# Altium schematic symbol library lcdtft.SchLib: 49 symbols
Pins are listed as number, name and electrical type; pins without a type are passive.

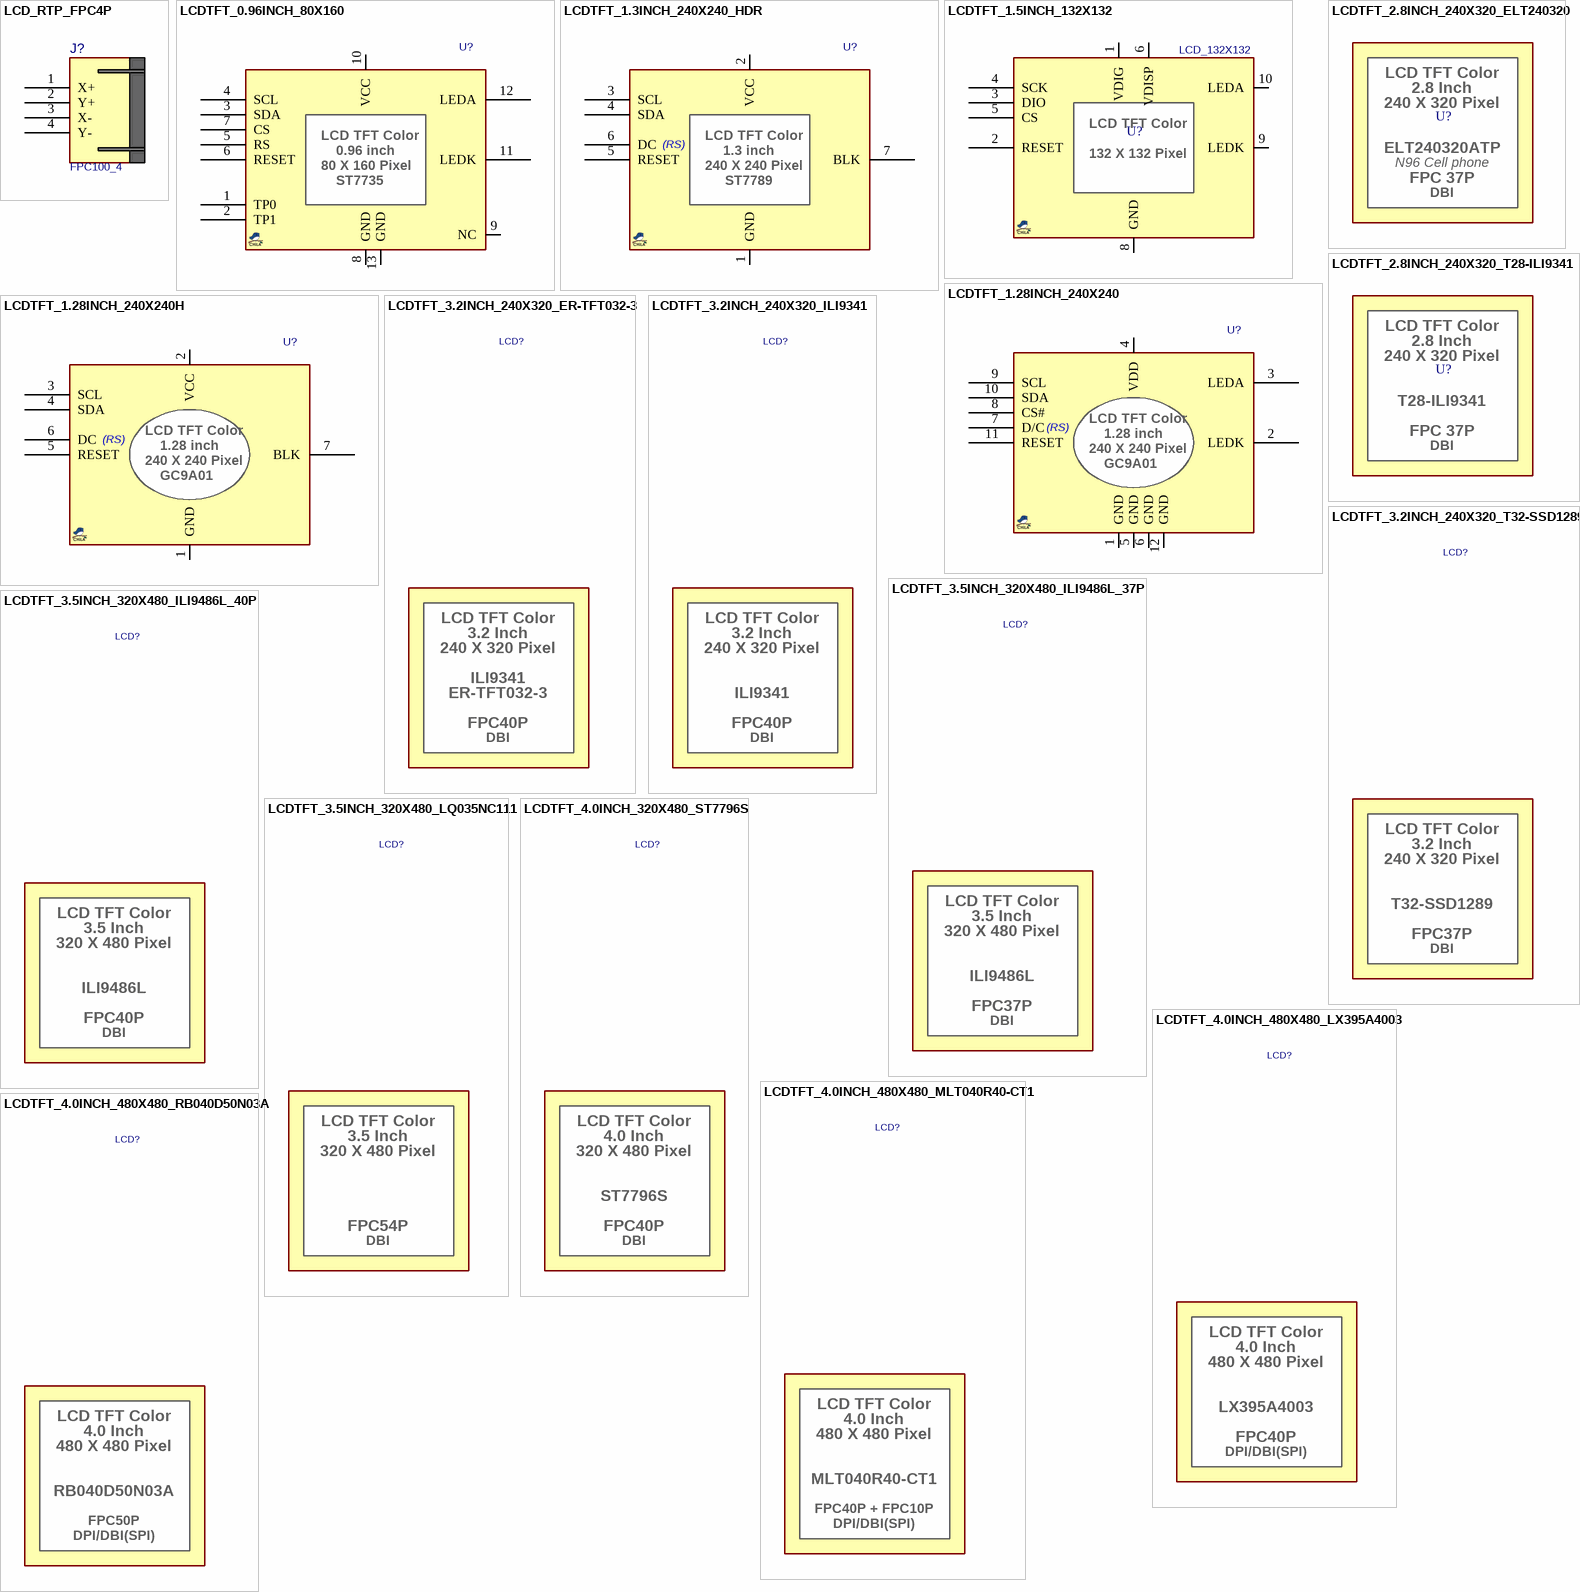
[diagram p0: symbols LCD_RTP_FPC4P to LCDTFT_4.0INCH_480X480_RB040D50N03A]

## LCD_RTP_FPC4P
designator J?, comment FPC100_4
LCD Resistive touch, FPC 4pin; MANF: -; MANF_P#: -; PARAM: -; VALUE: FPC100_4
footprint FPC100_4HT (TE Connectivity 4-pin ZIF connector TE84953-4)
pins: 1 X+, 2 Y+, 3 X-, 4 Y-

## LCDTFT_0.96INCH_80X160
designator U?, comment LCDTFT_0.96  (value not drawn)
LCD TFT Color, 0.96", 80x160 - ST7735; PARAM2: 3.3V; PARAM: 0.96 inch-80x160, ST7735; VALUE: LCDTFT_0.96
footprint LCDTFT_0P96_80X160 (TFT LCD 0.96 inch-80x160 - ST7735)
footprint LCDTFT_0P96_80X160B (TFT LCD 0.96 inch-80x160 - ST7735)
pins: 1 TP0 (power), 2 TP1 (power), 3 SDA (power), 4 SCL (power), 5 RS (power), 6 RESET (power), 7 CS (power), 8 GND (power), 9 NC (power), 10 VCC (power), 11 LEDK (power), 12 LEDA (power), 13 GND (power)
text: LCD TFT Color; 0.96 inch; 80 X 160 Pixel; ST7735

## LCDTFT_1.3INCH_240X240_HDR
designator U?, comment LCDTFT_1.3"  (value not drawn)
LCD TFT Color, 1.3", 240X240, ST7789; MANF_P#: ZJY130-IPS breakout; PARAM2: 3.3V; PARAM: 1.3 inch, 240X240, ST7789; VALUE: LCDTFT_1.3"
footprint LCDTFT_1P3_240X240 (LCD TFT Color, 1.3", 240X240, ST7789)
pins: 1 GND, 2 VCC, 3 SCL, 4 SDA, 5 RESET, 6 DC, 7 BLK
text: (RS); LCD TFT Color; 1.3 inch; 240 X 240 Pixel; ST7789

## LCDTFT_1.5INCH_132X132
designator U?, comment LCD_132X132
LCD TFT 1.5", 132X132, 12Bit Color; MANF: Nokia; MANF_P#: 6610, 6220, 6100, 2600, 2610; PARAM2: 3.3VIO; PARAM: 12Bit Color, 1.5", 132X132; VALUE: LCD_132X132
footprint LCDTFT_1P5_132X132 (LCD, NOKIA 6610, 6220, 6100, 2600, 2610)
pins: 1 VDIG, 2 RESET, 3 DIO, 4 SCK, 5 CS, 6 VDISP, 8 GND, 9 LEDK, 10 LEDA
text: LCD TFT Color; 132 X 132 Pixel

## LCDTFT_1.28INCH_240X240
designator U?, comment LCDTFT_1.28"  (value not drawn)
LCD TFT Color, 1.28", 240X240, GC9A01; MANF_P#: ZJY128R-IG01; PARAM2: 3.3V; PARAM: 1.28 inch, 240X240, GC9A01; VALUE: LCDTFT_1.28"
footprint LCDTFT_1P28_240X240 (LCD TFT Color, 1.28", 240X240, GC9A01)
pins: 1 GND (power), 2 LEDK (power), 3 LEDA (power), 4 VDD (power), 5 GND (power), 6 GND (power), 7 D/C (power), 8 CS# (power), 9 SCL (power), 10 SDA (power), 11 RESET (power), 12 GND (power)
text: (RS); LCD TFT Color; 1.28 inch; 240 X 240 Pixel; GC9A01

## LCDTFT_1.28INCH_240X240H
designator U?, comment LCDTFT_1.28"  (value not drawn)
LCD TFT Color, 1.28", 240X240, GC9A01, breakout; MANF_P#: ZJY128R-IG01; PARAM2: 3.3V; PARAM: 1.28 inch, 240X240, GC9A01; VALUE: LCDTFT_1.28"
footprint LCDTFT_1P28_240X240H (LCD TFT Color, 1.28", 240X240, GC9A01, breakout)
pins: 1 GND, 2 VCC, 3 SCL, 4 SDA, 5 RESET, 6 DC, 7 BLK
text: (RS); LCD TFT Color; 1.28 inch; 240 X 240 Pixel; GC9A01

## LCDTFT_2.8INCH_240X320_ELT240320
designator U?, comment LCD_2.8INCH  (value not drawn)
LCD TFT Color, 2.8", 240X320, with Touch; MANF: China; MANF_P#: ELT240320ATP; PARAM2: 5VCC, 2.5~3.3VIO; PARAM: 240X320 pixel, 2.8", Color; VALUE: LCD_2.8INCH
footprint LCDTFT_2P8_FPC37P (Footprint not found)
footprint LCDTFT_2P8_N96 (LCD, TFT, 2.8" N96)
text: LCD TFT Color; 2.8 Inch; 240 X 320 Pixel; N96 Cell phone; FPC 37P; DBI

## LCDTFT_2.8INCH_240X320_T28-ILI9341
designator U?, comment LCD_2.8INCH  (value not drawn)
LCD TFT Color, 2.8", 240X320, with Touch; MANF: China; MANF_P#: T28-ILI9341; PARAM2: 5VCC, 2.5~3.3VIO; PARAM: 240X320 pixel, 2.8", Color; VALUE: LCD_2.8INCH
footprint LCDTFT_2P8_FPC37P (Footprint not found)
text: LCD TFT Color; 2.8 Inch; 240 X 320 Pixel; FPC 37P; DBI

## LCDTFT_3.2INCH_240X320_ER-TFT032-3
designator LCD?, comment LCDTFT_3.2INCH  (value not drawn)  (mechanical)
LCD TFT Color, 3.2", 240X320 with touch; MANF: -; MANF_P#: LCDTFT_3.2INCH; VALUE: LCDTFT_3.2INCH
footprint LCDTFT3P2_FPC40P (Footprint not found)
text: LCD TFT Color; 3.2 Inch; 240 X 320 Pixel; ILI9341; ER-TFT032-3; FPC40P; DBI

## LCDTFT_3.2INCH_240X320_ILI9341
designator LCD?, comment LCDTFT_3.2INCH  (value not drawn)  (mechanical)
LCD TFT Color, 3.2", 240X320 with touch; MANF: -; MANF_P#: LCDTFT_3.2INCH; VALUE: LCDTFT_3.2INCH
footprint LCDTFT3P2_FPC40P (Footprint not found)
text: LCD TFT Color; 3.2 Inch; 240 X 320 Pixel; ILI9341; FPC40P; DBI

## LCDTFT_3.2INCH_240X320_T32-SSD1289
designator LCD?, comment LCDTFT_3.2INCH  (value not drawn)  (mechanical)
LCD TFT Color, 3.2", 240X320 with touch; MANF_P#: T32-SSD1289; MANF: -; VALUE: LCDTFT_3.2INCH
footprint LCDTFT3P2_FPC37P (Footprint not found)
text: LCD TFT Color; 3.2 Inch; 240 X 320 Pixel; FPC37P; DBI

## LCDTFT_3.5INCH_320X480_ILI9486L_37P
designator LCD?, comment LCDTFT_3.5INCH  (value not drawn)  (mechanical)
LCD TFT Color, 3.5", 320X480 with touch; MANF: -; MANF_P#: LCDTFT_3.5INCH; VALUE: LCDTFT_3.5INCH
footprint LCDTFT3P2_FPC37P (Footprint not found)
text: LCD TFT Color; 3.5 Inch; 320 X 480 Pixel; ILI9486L; FPC37P; DBI

## LCDTFT_3.5INCH_320X480_ILI9486L_40P
designator LCD?, comment LCDTFT_3.5INCH  (value not drawn)  (mechanical)
LCD TFT Color, 3.5", 320X480 with touch; MANF: -; MANF_P#: LCDTFT_3.5INCH; VALUE: LCDTFT_3.5INCH
footprint LCDTFT3P5_FPC40P (Footprint not found)
text: LCD TFT Color; 3.5 Inch; 320 X 480 Pixel; ILI9486L; FPC40P; DBI

## LCDTFT_3.5INCH_320X480_LQ035NC111
designator LCD?, comment LCDTFT_3.5INCH  (value not drawn)  (mechanical)
LCD TFT Color, 3.5", 320X480 with touch; MANF_P#: LQ035NC111; MANF: -; VALUE: LCDTFT_3.5INCH
footprint LCDTFT3P5_FPC54P (Footprint not found)
text: LCD TFT Color; 3.5 Inch; 320 X 480 Pixel; FPC54P; DBI

## LCDTFT_4.0INCH_320X480_ST7796S
designator LCD?, comment LCDTFT_4INCH  (value not drawn)  (mechanical)
LCD TFT Color, 4", 320X480 with touch; MANF: -; MANF_P#: LCDTFT_4INCH; VALUE: LCDTFT_4INCH
footprint LCDTFT4_FPC40P (Footprint not found)
text: LCD TFT Color; 4.0 Inch; 320 X 480 Pixel; ST7796S; FPC40P; DBI

## LCDTFT_4.0INCH_480X480_LX395A4003
designator LCD?, comment LCDTFT_4INCH  (value not drawn)  (mechanical)
LCD TFT Color, 4", 480X480 with touch; MANF: -; MANF_P#: LCDTFT_4INCH; VALUE: LCDTFT_4INCH
footprint LCDTFT4S_FPC40P (Footprint not found)
text: LCD TFT Color; 4.0 Inch; 480 X 480 Pixel; LX395A4003; FPC40P; DPI/DBI(SPI)

## LCDTFT_4.0INCH_480X480_MLT040R40-CT1
designator LCD?, comment LCDTFT_4INCH  (value not drawn)  (mechanical)
LCD TFT Color, 4", 480X480 with touch; MANF: szmaclight; MANF_P#: MLT040R40-CT1; VALUE: LCDTFT_4INCH
footprint LCDTFT4S_FPC40P10P (Footprint not found)
text: LCD TFT Color; 4.0 Inch; 480 X 480 Pixel; FPC40P + FPC10P; DPI/DBI(SPI)

## LCDTFT_4.0INCH_480X480_RB040D50N03A
designator LCD?, comment LCDTFT_4INCH  (value not drawn)  (mechanical)
LCD TFT Color, 4", 480X480 with touch; MANF: Ronbo; MANF_P#: RB040D50N03A; VALUE: LCDTFT_4INCH
footprint LCDTFT4S_FPC50P (Footprint not found)
text: LCD TFT Color; 4.0 Inch; 480 X 480 Pixel; FPC50P; DPI/DBI(SPI)

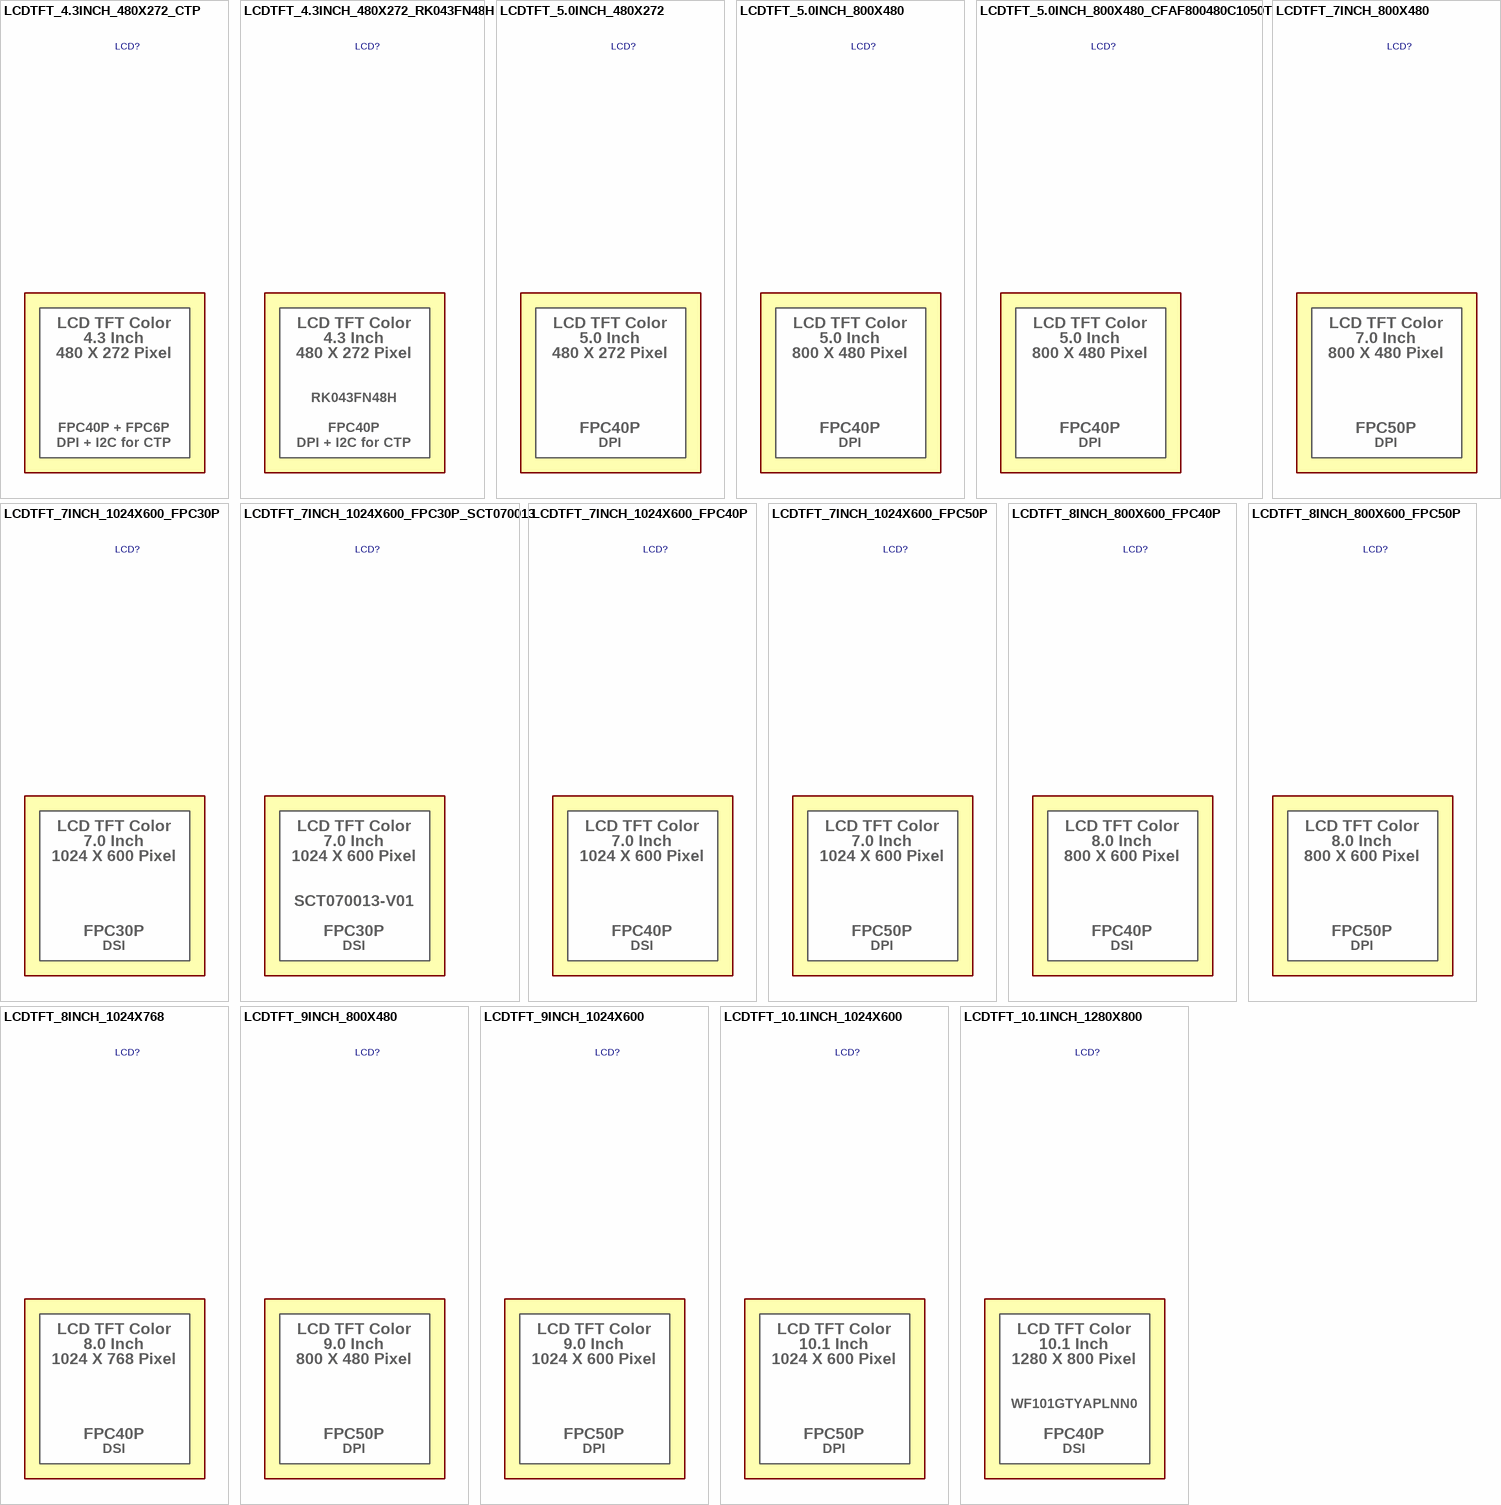
[diagram p1: symbols LCDTFT_4.3INCH_480X272_CTP to LCDTFT_10.1INCH_1280X800]

## LCDTFT_4.3INCH_480X272_CTP
designator LCD?, comment LCDTFT_4.3INCH  (value not drawn)  (mechanical)
LCD TFT Color, 4", 480X272 with capacitive touch GT9147; MANF: -; MANF_P#: LCDTFT_4.3INCH; VALUE: LCDTFT_4.3INCH
footprint LCDTFT4P3_FPC40P6P (Footprint not found)
text: LCD TFT Color; 4.3 Inch; 480 X 272 Pixel; FPC40P + FPC6P; DPI + I2C for CTP

## LCDTFT_4.3INCH_480X272_RK043FN48H
designator LCD?, comment LCDTFT_4.3INCH  (value not drawn)  (mechanical)
LCD TFT Color, 4", 480X272 with capacitive touch GT9147; MANF_P#: RK043FN48H-CT672B; MANF: -; VALUE: LCDTFT_4.3INCH
footprint LCDTFT4P3_FPC40P (Footprint not found)
text: LCD TFT Color; 4.3 Inch; 480 X 272 Pixel; RK043FN48H; FPC40P; DPI + I2C for CTP

## LCDTFT_5.0INCH_480X272
designator LCD?, comment LCDTFT_5INCH  (value not drawn)  (mechanical)
LCD TFT Color, 5", 480X272 with touch; MANF_P#: AT050TN33; MANF: -; VALUE: LCDTFT_5INCH
footprint LCDTFT5_FPC40P (Footprint not found)
text: LCD TFT Color; 5.0 Inch; 480 X 272 Pixel; FPC40P; DPI

## LCDTFT_5.0INCH_800X480
designator LCD?, comment LCDTFT_5INCH  (value not drawn)  (mechanical)
LCD TFT Color, 5", 800X480 with touch; MANF: -; MANF_P#: LCDTFT_5INCH; VALUE: LCDTFT_5INCH
footprint LCDTFT5_FPC40P (Footprint not found)
text: LCD TFT Color; 5.0 Inch; 800 X 480 Pixel; FPC40P; DPI

## LCDTFT_5.0INCH_800X480_CFAF800480C1050T
designator LCD?, comment LCDTFT_5INCH  (value not drawn)  (mechanical)
LCD TFT Color, 5", 800X480; MANF_P#: CFAF800480C1050T; MANF: -; VALUE: LCDTFT_5INCH
footprint LCDTFT5_FPC40P (Footprint not found)
text: LCD TFT Color; 5.0 Inch; 800 X 480 Pixel; FPC40P; DPI

## LCDTFT_7INCH_800X480
designator LCD?, comment LCDTFT_7INCH  (value not drawn)  (mechanical)
LCD TFT Color, 7", 800X480; MANF: Microtips, INNOLUX; MANF_P#: MTD0700BIG-1, AT070TN92, HC-7DD30051SWRL; PARAM: Color, 7", 800X480; VALUE: LCDTFT_7INCH
footprint LCDTFT7_FPC50P (Footprint not found)
text: LCD TFT Color; 7.0 Inch; 800 X 480 Pixel; FPC50P; DPI

## LCDTFT_7INCH_1024X600_FPC30P
designator LCD?, comment LCDTFT_7INCH  (value not drawn)  (mechanical)
LCD TFT Color, 7", 1024X600, LVDS; MANF_P#: 070XIEB0GH1, 070XIEBCBH6; MANF: -; PARAM: Color, 7", 1024X600; VALUE: LCDTFT_7INCH
footprint LCDTFT7_FPC40P (Footprint not found)
text: LCD TFT Color; 7.0 Inch; 1024 X 600 Pixel; FPC30P; DSI

## LCDTFT_7INCH_1024X600_FPC30P_SCT070013
designator LCD?, comment LCDTFT_7INCH  (value not drawn)  (mechanical)
LCD TFT Color, 7", 1024X600, LVDS; MANF_P#: SCT070013-V01; MANF: -; PARAM: Color, 7", 1024X600; VALUE: LCDTFT_7INCH
footprint LCDTFT7_FPC40P (Footprint not found)
text: LCD TFT Color; 7.0 Inch; 1024 X 600 Pixel; FPC30P; DSI

## LCDTFT_7INCH_1024X600_FPC40P
designator LCD?, comment LCDTFT_7INCH  (value not drawn)  (mechanical)
LCD TFT Color, 7", 1024X600, LVDS; MANF_P#: DT070DTFT, EA R1024X-70A, RVT70HSLFWCA0, RVT70HSLNWCA0; MANF: -; PARAM: Color, 7", 1024X600; VALUE: LCDTFT_7INCH
footprint LCDTFT7_FPC40P (Footprint not found)
text: LCD TFT Color; 7.0 Inch; 1024 X 600 Pixel; FPC40P; DSI

## LCDTFT_7INCH_1024X600_FPC50P
designator LCD?, comment LCDTFT_7INCH  (value not drawn)  (mechanical)
LCD TFT Color, 7", 1024X600, LVDS; MANF_P#: RB070D50N12A, RVT70HSTNWN00; MANF: -; PARAM: Color, 7", 1024X600; VALUE: LCDTFT_7INCH
footprint LCDTFT7_FPC50P (Footprint not found)
text: LCD TFT Color; 7.0 Inch; 1024 X 600 Pixel; FPC50P; DPI

## LCDTFT_8INCH_800X600_FPC40P
designator LCD?, comment LCDTFT_8INCH  (value not drawn)  (mechanical)
LCD TFT Color, 8", 800X600, LVDS; MANF: -; MANF_P#: -; PARAM: Color, 8", 800X600; VALUE: LCDTFT_8INCH
footprint LCDTFT8_FPC40P (Footprint not found)
text: LCD TFT Color; 8.0 Inch; 800 X 600 Pixel; FPC40P; DSI

## LCDTFT_8INCH_800X600_FPC50P
designator LCD?, comment LCDTFT_8INCH  (value not drawn)  (mechanical)
LCD TFT Color, 8", 800X600, RGB; MANF_P#: EJ080NA-05B; MANF: -; PARAM: Color, 8", 800X600; VALUE: LCDTFT_8INCH
footprint LCDTFT8_FPC40P (Footprint not found)
text: LCD TFT Color; 8.0 Inch; 800 X 600 Pixel; FPC50P; DPI

## LCDTFT_8INCH_1024X768
designator LCD?, comment LCDTFT_8INCH  (value not drawn)  (mechanical)
LCD TFT Color, 8", 1024X768, LVDS; MANF_P#: HC080IM30025, HJ080IA-01E; MANF: -; PARAM: Color, 8", 1024X768; VALUE: LCDTFT_8INCH
footprint LCDTFT8_FPC40P (Footprint not found)
text: LCD TFT Color; 8.0 Inch; 1024 X 768 Pixel; FPC40P; DSI

## LCDTFT_9INCH_800X480
designator LCD?, comment LCDTFT_9INCH  (value not drawn)  (mechanical)
LCD TFT Color, 9", 800X480; MANF_P#: AT090TN12; PARAM: Color, 9", 800X480; VALUE: LCDTFT_9INCH
footprint LCDTFT9_FPC50P (Footprint not found)
text: LCD TFT Color; 9.0 Inch; 800 X 480 Pixel; FPC50P; DPI

## LCDTFT_9INCH_1024X600
designator LCD?, comment LCDTFT_9INCH  (value not drawn)  (mechanical)
LCD TFT Color, 9", 1024X600; MANF_P#: -; PARAM: Color, 9", 1024X600; VALUE: LCDTFT_9INCH
footprint LCDTFT9_FPC50P (Footprint not found)
text: LCD TFT Color; 9.0 Inch; 1024 X 600 Pixel; FPC50P; DPI

## LCDTFT_10.1INCH_1024X600
designator LCD?, comment LCDTFT_9INCH  (value not drawn)  (mechanical)
LCD TFT Color, 10.1", 1024X600; MANF_P#: -; PARAM: Color, 10.1", 1024X600; VALUE: LCDTFT_9INCH
footprint LCDTFT10P1_FPC50P (Footprint not found)
text: LCD TFT Color; 10.1 Inch; 1024 X 600 Pixel; FPC50P; DPI

## LCDTFT_10.1INCH_1280X800
designator LCD?, comment LCDTFT_10INCH  (value not drawn)  (mechanical)
LCD TFT Color, 10.1", 1280X800, LVDS; MANF_P#: WF101GTYAPLNN0; MANF: -; PARAM: Color, 10.1", 1280X800; VALUE: LCDTFT_10INCH
footprint LCDTFT10P1_FPC40P (Footprint not found)
text: LCD TFT Color; 10.1 Inch; 1280 X 800 Pixel; FPC40P; DSI

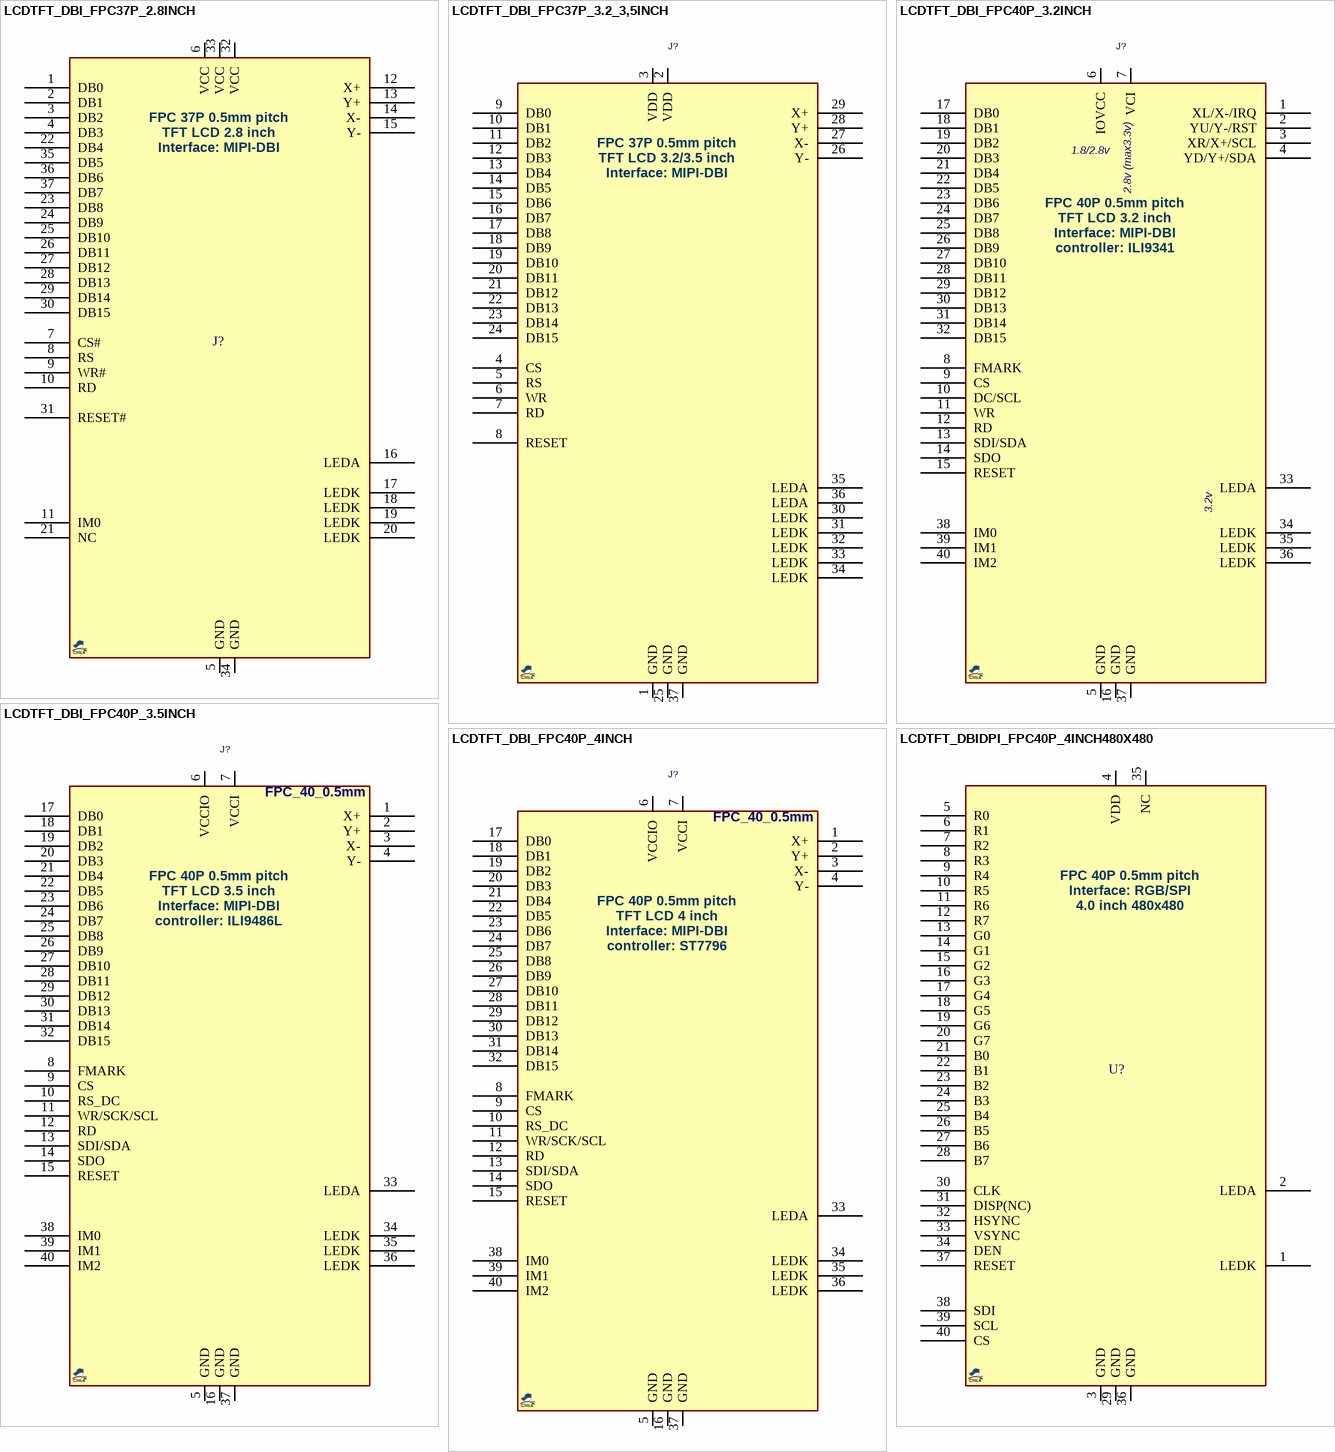
[diagram p2: symbols LCDTFT_DBI_FPC37P_2.8INCH to LCDTFT_DBIDPI_FPC40P_4INCH480X480]

## LCDTFT_DBI_FPC37P_2.8INCH
designator J?, comment FPC50_37  (value not drawn)
LCD TFT Color, FPC37P, 2.8", with Touch; PARAM2: 5VCC, 2.5~3.3VIO; MANF: -; MANF_P#: -; PARAM: -; VALUE: FPC50_37
footprint FPC50_37 (FPC, pitch: 0.5mm, TE 3-1734592-7)
pins: 1 DB0, 2 DB1, 3 DB2, 4 DB3, 5 GND, 6 VCC, 7 CS#, 8 RS, 9 WR#, 10 RD, 11 IM0, 12 X+, 13 Y+, 14 X-, 15 Y-, 16 LEDA, 17 LEDK, 18 LEDK, 19 LEDK, 20 LEDK, 21 NC, 22 DB4, 23 DB8, 24 DB9, 25 DB10, 26 DB11, 27 DB12, 28 DB13, 29 DB14, 30 DB15, 31 RESET#, 32 VCC, 33 VCC, 34 GND, 35 DB5, 36 DB6, 37 DB7
text: FPC 37P 0.5mm pitch; TFT LCD 2.8 inch; Interface: MIPI-DBI

## LCDTFT_DBI_FPC37P_3.2_3,5INCH
designator J?, comment FPC50_37  (value not drawn)
LCD TFT Color, FPC37P, 3.2"/3.5", with Touch; MANF: -; MANF_P#: -; VALUE: FPC50_37
footprint FPC50_37 (FPC, pitch: 0.5mm, TE 3-1734592-7)
pins: 1 GND, 2 VDD, 3 VDD, 4 CS, 5 RS, 6 WR, 7 RD, 8 RESET, 9 DB0, 10 DB1, 11 DB2, 12 DB3, 13 DB4, 14 DB5, 15 DB6, 16 DB7, 17 DB8, 18 DB9, 19 DB10, 20 DB11, 21 DB12, 22 DB13, 23 DB14, 24 DB15, 25 GND, 26 Y-, 27 X-, 28 Y+, 29 X+, 30 LEDK, 31 LEDK, 32 LEDK, 33 LEDK, 34 LEDK, 35 LEDA, 36 LEDA, 37 GND
text: FPC 37P 0.5mm pitch; TFT LCD 3.2/3.5 inch; Interface: MIPI-DBI

## LCDTFT_DBI_FPC40P_3.2INCH
designator J?, comment FPC50_40  (value not drawn)
LCD TFT Color, FPC40P, 3.2" with touch; MANF: Hirose; MANF_P#: FH12A-40S-0.5SH; VALUE: FPC50_40
footprint FPC50_40T (FPC, FH12 Series; 40 Position; 0.5mm, Top Contact)
pins: 1 XL/X-/IRQ, 2 YU/Y-/RST, 3 XR/X+/SCL, 4 YD/Y+/SDA, 5 GND, 6 IOVCC, 7 VCI, 8 FMARK, 9 CS, 10 DC/SCL, 11 WR, 12 RD, 13 SDI/SDA, 14 SDO, 15 RESET, 16 GND, 17 DB0, 18 DB1, 19 DB2, 20 DB3, 21 DB4, 22 DB5, 23 DB6, 24 DB7, 25 DB8, 26 DB9, 27 DB10, 28 DB11, 29 DB12, 30 DB13, 31 DB14, 32 DB15, 33 LEDA, 34 LEDK, 35 LEDK, 36 LEDK, 37 GND, 38 IM0, 39 IM1, 40 IM2
text: 1.8/2.8v; 2.8v (max3.3v); FPC 40P 0.5mm pitch; TFT LCD 3.2 inch; Interface: MIPI-DBI; controller: ILI9341; 3.2v

## LCDTFT_DBI_FPC40P_3.5INCH
designator J?, comment FPC50_40  (value not drawn)
LCD TFT Color, FPC40P, 3.5" with touch; MANF: Hirose; MANF_P#: FH12A-40S-0.5SH; VALUE: FPC50_40
footprint FPC50_40T (FPC, FH12 Series; 40 Position; 0.5mm, Top Contact)
pins: 1 X+, 2 Y+, 3 X-, 4 Y-, 5 GND, 6 VCCIO, 7 VCCI, 8 FMARK, 9 CS, 10 RS_DC, 11 WR/SCK/SCL, 12 RD, 13 SDI/SDA, 14 SDO, 15 RESET, 16 GND, 17 DB0, 18 DB1, 19 DB2, 20 DB3, 21 DB4, 22 DB5, 23 DB6, 24 DB7, 25 DB8, 26 DB9, 27 DB10, 28 DB11, 29 DB12, 30 DB13, 31 DB14, 32 DB15, 33 LEDA, 34 LEDK, 35 LEDK, 36 LEDK, 37 GND, 38 IM0, 39 IM1, 40 IM2
text: FPC_40_0.5mm; FPC 40P 0.5mm pitch; TFT LCD 3.5 inch; Interface: MIPI-DBI; controller: ILI9486L

## LCDTFT_DBI_FPC40P_4INCH
designator J?, comment FPC50_40  (value not drawn)
LCD TFT Color, FPC40P, 4" with touch; MANF: Hirose; MANF_P#: FH12A-40S-0.5SH; VALUE: FPC50_40
footprint FPC50_40T (FPC, FH12 Series; 40 Position; 0.5mm, Top Contact)
pins: 1 X+, 2 Y+, 3 X-, 4 Y-, 5 GND, 6 VCCIO, 7 VCCI, 8 FMARK, 9 CS, 10 RS_DC, 11 WR/SCK/SCL, 12 RD, 13 SDI/SDA, 14 SDO, 15 RESET, 16 GND, 17 DB0, 18 DB1, 19 DB2, 20 DB3, 21 DB4, 22 DB5, 23 DB6, 24 DB7, 25 DB8, 26 DB9, 27 DB10, 28 DB11, 29 DB12, 30 DB13, 31 DB14, 32 DB15, 33 LEDA, 34 LEDK, 35 LEDK, 36 LEDK, 37 GND, 38 IM0, 39 IM1, 40 IM2
text: FPC_40_0.5mm; FPC 40P 0.5mm pitch; TFT LCD 4 inch; Interface: MIPI-DBI; controller: ST7796

## LCDTFT_DBIDPI_FPC40P_4INCH480X480
designator U?, comment LCDTFT_4INCH_with touch  (value not drawn)
LCD TFT Color, FPC40P, 4", 480X480 RGB/SPI, with touch; MANF: -; MANF_P#: -; PARAM: -; VALUE: LCDTFT_4INCH_with touch
footprint FPC50_40 (FPC, pitch: 0.5mm, FH12-40S-0.5SH, molex 54132-4062)
pins: 1 LEDK, 2 LEDA, 3 GND, 4 VDD, 5 R0, 6 R1, 7 R2, 8 R3, 9 R4, 10 R5, 11 R6, 12 R7, 13 G0, 14 G1, 15 G2, 16 G3, 17 G4, 18 G5, 19 G6, 20 G7, 21 B0, 22 B1, 23 B2, 24 B3, 25 B4, 26 B5, 27 B6, 28 B7, 29 GND, 30 CLK, 31 DISP(NC), 32 HSYNC, 33 VSYNC, 34 DEN, 35 NC, 36 GND, 37 RESET, 38 SDI, 39 SCL, 40 CS
text: FPC 40P 0.5mm pitch; Interface: RGB/SPI; 4.0 inch 480x480

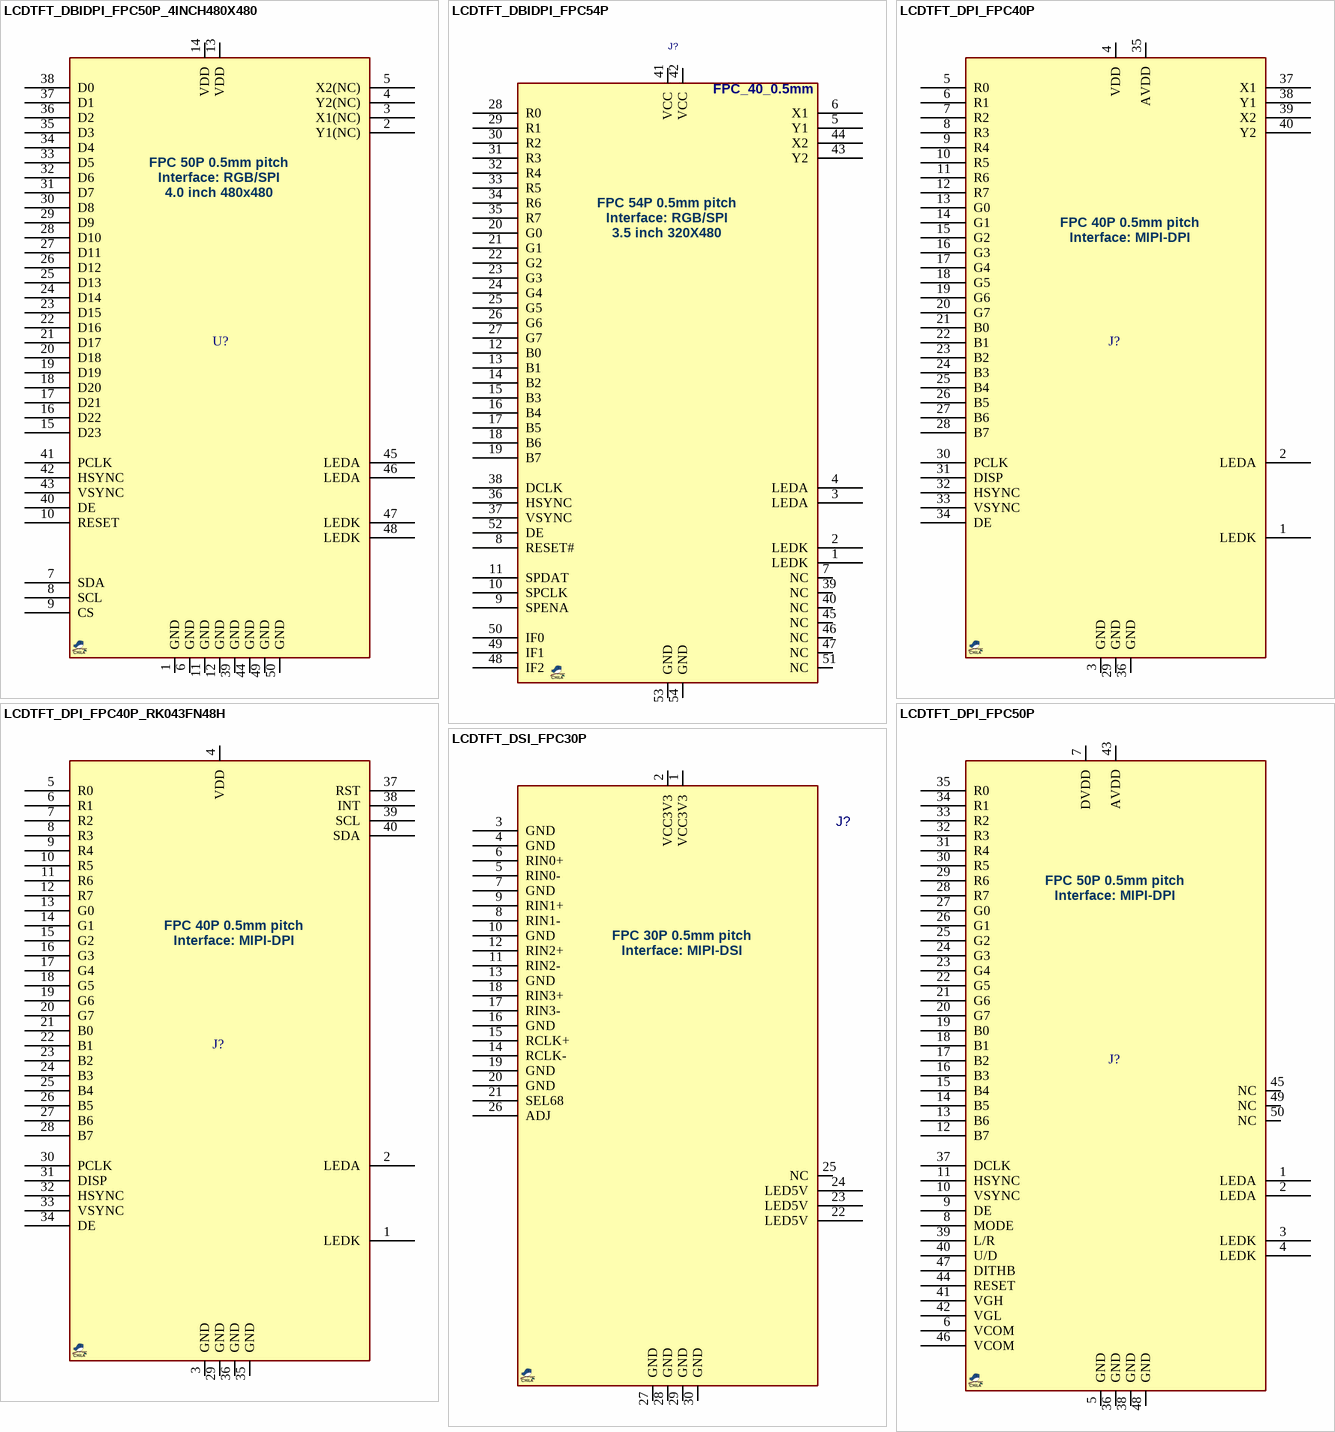
[diagram p3: symbols LCDTFT_DBIDPI_FPC50P_4INCH480X480 to LCDTFT_DSI_FPC30P]

## LCDTFT_DBIDPI_FPC50P_4INCH480X480
designator U?, comment FPC_50_0.5mm  (value not drawn)
LCD TFT Color, FPC50P, 4", 480X480 RGB/SPI, with touch; MANF: -; MANF_P#: -; PARAM: -; VALUE: FPC_50_0.5mm
footprint FPC50_50 (FPC, pitch: 0.5mm, FH12-50S-0.5SH)
pins: 1 GND, 2 Y1(NC), 3 X1(NC), 4 Y2(NC), 5 X2(NC), 6 GND, 7 SDA, 8 SCL, 9 CS, 10 RESET, 11 GND, 12 GND, 13 VDD, 14 VDD, 15 D23, 16 D22, 17 D21, 18 D20, 19 D19, 20 D18, 21 D17, 22 D16, 23 D15, 24 D14, 25 D13, 26 D12, 27 D11, 28 D10, 29 D9, 30 D8, 31 D7, 32 D6, 33 D5, 34 D4, 35 D3, 36 D2, 37 D1, 38 D0, 39 GND, 40 DE, 41 PCLK, 42 HSYNC, 43 VSYNC, 44 GND, 45 LEDA, 46 LEDA, 47 LEDK, 48 LEDK, 49 GND, 50 GND
text: FPC 50P 0.5mm pitch; Interface: RGB/SPI; 4.0 inch 480x480

## LCDTFT_DBIDPI_FPC54P
designator J?, comment FPC50_54  (value not drawn)
LCD TFT Color, FPC54P, RGB/SPI, with touch; MANF: -; MANF_P#: -; VALUE: FPC50_54
footprint FPC50_54T (FPC, pitch: 0.5mm, FFC2B17-54-T)
pins: 1 LEDK, 2 LEDK, 3 LEDA, 4 LEDA, 5 Y1, 6 X1, 7 NC, 8 RESET#, 9 SPENA, 10 SPCLK, 11 SPDAT, 12 B0, 13 B1, 14 B2, 15 B3, 16 B4, 17 B5, 18 B6, 19 B7, 20 G0, 21 G1, 22 G2, 23 G3, 24 G4, 25 G5, 26 G6, 27 G7, 28 R0, 29 R1, 30 R2, 31 R3, 32 R4, 33 R5, 34 R6, 35 R7, 36 HSYNC, 37 VSYNC, 38 DCLK, 39 NC, 40 NC, 41 VCC, 42 VCC, 43 Y2, 44 X2, 45 NC, 46 NC, 47 NC, 48 IF2, 49 IF1, 50 IF0, 51 NC, 52 DE, 53 GND, 54 GND
text: FPC_40_0.5mm; FPC 54P 0.5mm pitch; Interface: RGB/SPI; 3.5 inch 320X480

## LCDTFT_DPI_FPC40P
designator J?, comment FPC_40_0.5mm  (value not drawn)
LCD TFT Color, FPC40P, RGB; MANF: -; MANF_P#: -; PARAM: -; VALUE: FPC_40_0.5mm
footprint FPC50_40 (FPC, pitch: 0.5mm, FH12-40S-0.5SH, molex 54132-4062)
pins: 1 LEDK, 2 LEDA, 3 GND, 4 VDD, 5 R0, 6 R1, 7 R2, 8 R3, 9 R4, 10 R5, 11 R6, 12 R7, 13 G0, 14 G1, 15 G2, 16 G3, 17 G4, 18 G5, 19 G6, 20 G7, 21 B0, 22 B1, 23 B2, 24 B3, 25 B4, 26 B5, 27 B6, 28 B7, 29 GND, 30 PCLK, 31 DISP, 32 HSYNC, 33 VSYNC, 34 DE, 35 AVDD, 36 GND, 37 X1, 38 Y1, 39 X2, 40 Y2
text: FPC 40P 0.5mm pitch; Interface: MIPI-DPI

## LCDTFT_DPI_FPC40P_RK043FN48H
designator J?, comment FPC_40_0.5mm  (value not drawn)
LCD TFT Color, FPC40P, RGB; MANF: -; MANF_P#: -; PARAM: -; VALUE: FPC_40_0.5mm
footprint FPC50_40 (FPC, pitch: 0.5mm, FH12-40S-0.5SH, molex 54132-4062)
pins: 1 LEDK, 2 LEDA, 3 GND, 4 VDD, 5 R0, 6 R1, 7 R2, 8 R3, 9 R4, 10 R5, 11 R6, 12 R7, 13 G0, 14 G1, 15 G2, 16 G3, 17 G4, 18 G5, 19 G6, 20 G7, 21 B0, 22 B1, 23 B2, 24 B3, 25 B4, 26 B5, 27 B6, 28 B7, 29 GND, 30 PCLK, 31 DISP, 32 HSYNC, 33 VSYNC, 34 DE, 35 GND, 36 GND, 37 RST, 38 INT, 39 SCL, 40 SDA
text: FPC 40P 0.5mm pitch; Interface: MIPI-DPI

## LCDTFT_DPI_FPC50P
designator J?, comment FPC_50_0.5mm  (value not drawn)
LCD TFT Color, FPC50P, RGB; MANF: -; MANF_P#: -; PARAM: -; VALUE: FPC_50_0.5mm
footprint FPC50_50 (FPC, pitch: 0.5mm, FH12-50S-0.5SH)
pins: 1 LEDA, 2 LEDA, 3 LEDK, 4 LEDK, 5 GND, 6 VCOM, 7 DVDD, 8 MODE, 9 DE, 10 VSYNC, 11 HSYNC, 12 B7, 13 B6, 14 B5, 15 B4, 16 B3, 17 B2, 18 B1, 19 B0, 20 G7, 21 G6, 22 G5, 23 G4, 24 G3, 25 G2, 26 G1, 27 G0, 28 R7, 29 R6, 30 R5, 31 R4, 32 R3, 33 R2, 34 R1, 35 R0, 36 GND, 37 DCLK, 38 GND, 39 L/R, 40 U/D, 41 VGH, 42 VGL, 43 AVDD, 44 RESET, 45 NC, 46 VCOM, 47 DITHB, 48 GND, 49 NC, 50 NC
text: FPC 50P 0.5mm pitch; Interface: MIPI-DPI

## LCDTFT_DSI_FPC30P
designator J?, comment FPC_30_0.5mm  (value not drawn)
LCD TFT Color, FPC30P, LVDS; MANF: -; MANF_P#: -; PARAM: -; VALUE: FPC_30_0.5mm
footprint FPC50_30 (FPC, pitch: 0.5mm, FPC0.5MM4.6H30P-H)
pins: 1 VCC3V3, 2 VCC3V3, 3 GND, 4 GND, 5 RIN0-, 6 RIN0+, 7 GND, 8 RIN1-, 9 RIN1+, 10 GND, 11 RIN2-, 12 RIN2+, 13 GND, 14 RCLK-, 15 RCLK+, 16 GND, 17 RIN3-, 18 RIN3+, 19 GND, 20 GND, 21 SEL68, 22 LED5V, 23 LED5V, 24 LED5V, 25 NC, 26 ADJ, 27 GND, 28 GND, 29 GND, 30 GND
text: FPC 30P 0.5mm pitch; Interface: MIPI-DSI

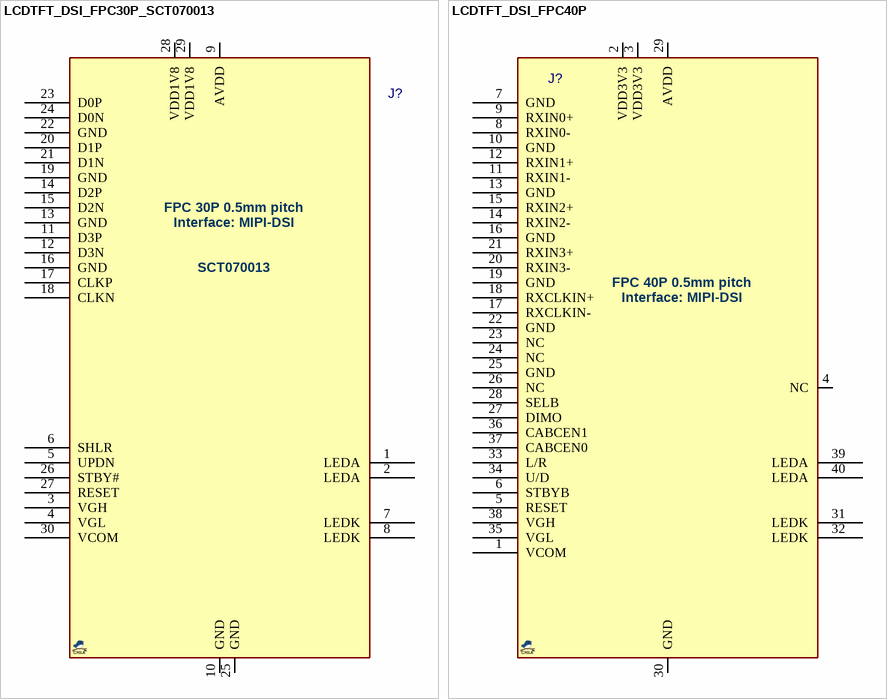
[diagram p4: symbols LCDTFT_DSI_FPC30P_SCT070013 to LCDTFT_DSI_FPC40P]

## LCDTFT_DSI_FPC30P_SCT070013
designator J?, comment FPC_30_0.5mm  (value not drawn)
LCD TFT Color, FPC30P, LVDS; MANF: -; MANF_P#: -; PARAM: -; VALUE: FPC_30_0.5mm
footprint FPC50_30 (FPC, pitch: 0.5mm, FPC0.5MM4.6H30P-H)
pins: 1 LEDA, 2 LEDA, 3 VGH, 4 VGL, 5 UPDN, 6 SHLR, 7 LEDK, 8 LEDK, 9 AVDD, 10 GND, 11 D3P, 12 D3N, 13 GND, 14 D2P, 15 D2N, 16 GND, 17 CLKP, 18 CLKN, 19 GND, 20 D1P, 21 D1N, 22 GND, 23 D0P, 24 D0N, 25 GND, 26 STBY#, 27 RESET, 28 VDD1V8, 29 VDD1V8, 30 VCOM
text: FPC 30P 0.5mm pitch; Interface: MIPI-DSI; SCT070013

## LCDTFT_DSI_FPC40P
designator J?, comment FPC_40_0.5mm  (value not drawn)
LCD TFT Color, FPC40P, LVDS; MANF: -; MANF_P#: -; PARAM: -; VALUE: FPC_40_0.5mm
footprint FPC50_40 (FPC, pitch: 0.5mm, FH12-40S-0.5SH, molex 54132-4062)
pins: 1 VCOM, 2 VDD3V3, 3 VDD3V3, 4 NC, 5 RESET, 6 STBYB, 7 GND, 8 RXIN0-, 9 RXIN0+, 10 GND, 11 RXIN1-, 12 RXIN1+, 13 GND, 14 RXIN2-, 15 RXIN2+, 16 GND, 17 RXCLKIN-, 18 RXCLKIN+, 19 GND, 20 RXIN3-, 21 RXIN3+, 22 GND, 23 NC, 24 NC, 25 GND, 26 NC, 27 DIMO, 28 SELB, 29 AVDD, 30 GND, 31 LEDK, 32 LEDK, 33 L/R, 34 U/D, 35 VGL, 36 CABCEN1, 37 CABCEN0, 38 VGH, 39 LEDA, 40 LEDA
text: FPC 40P 0.5mm pitch; Interface: MIPI-DSI